# Altium integrated library MC-IMX6Q-BOARD.IntLib: 57 symbols
Pins are listed as number, name and electrical type; pins without a type are passive.

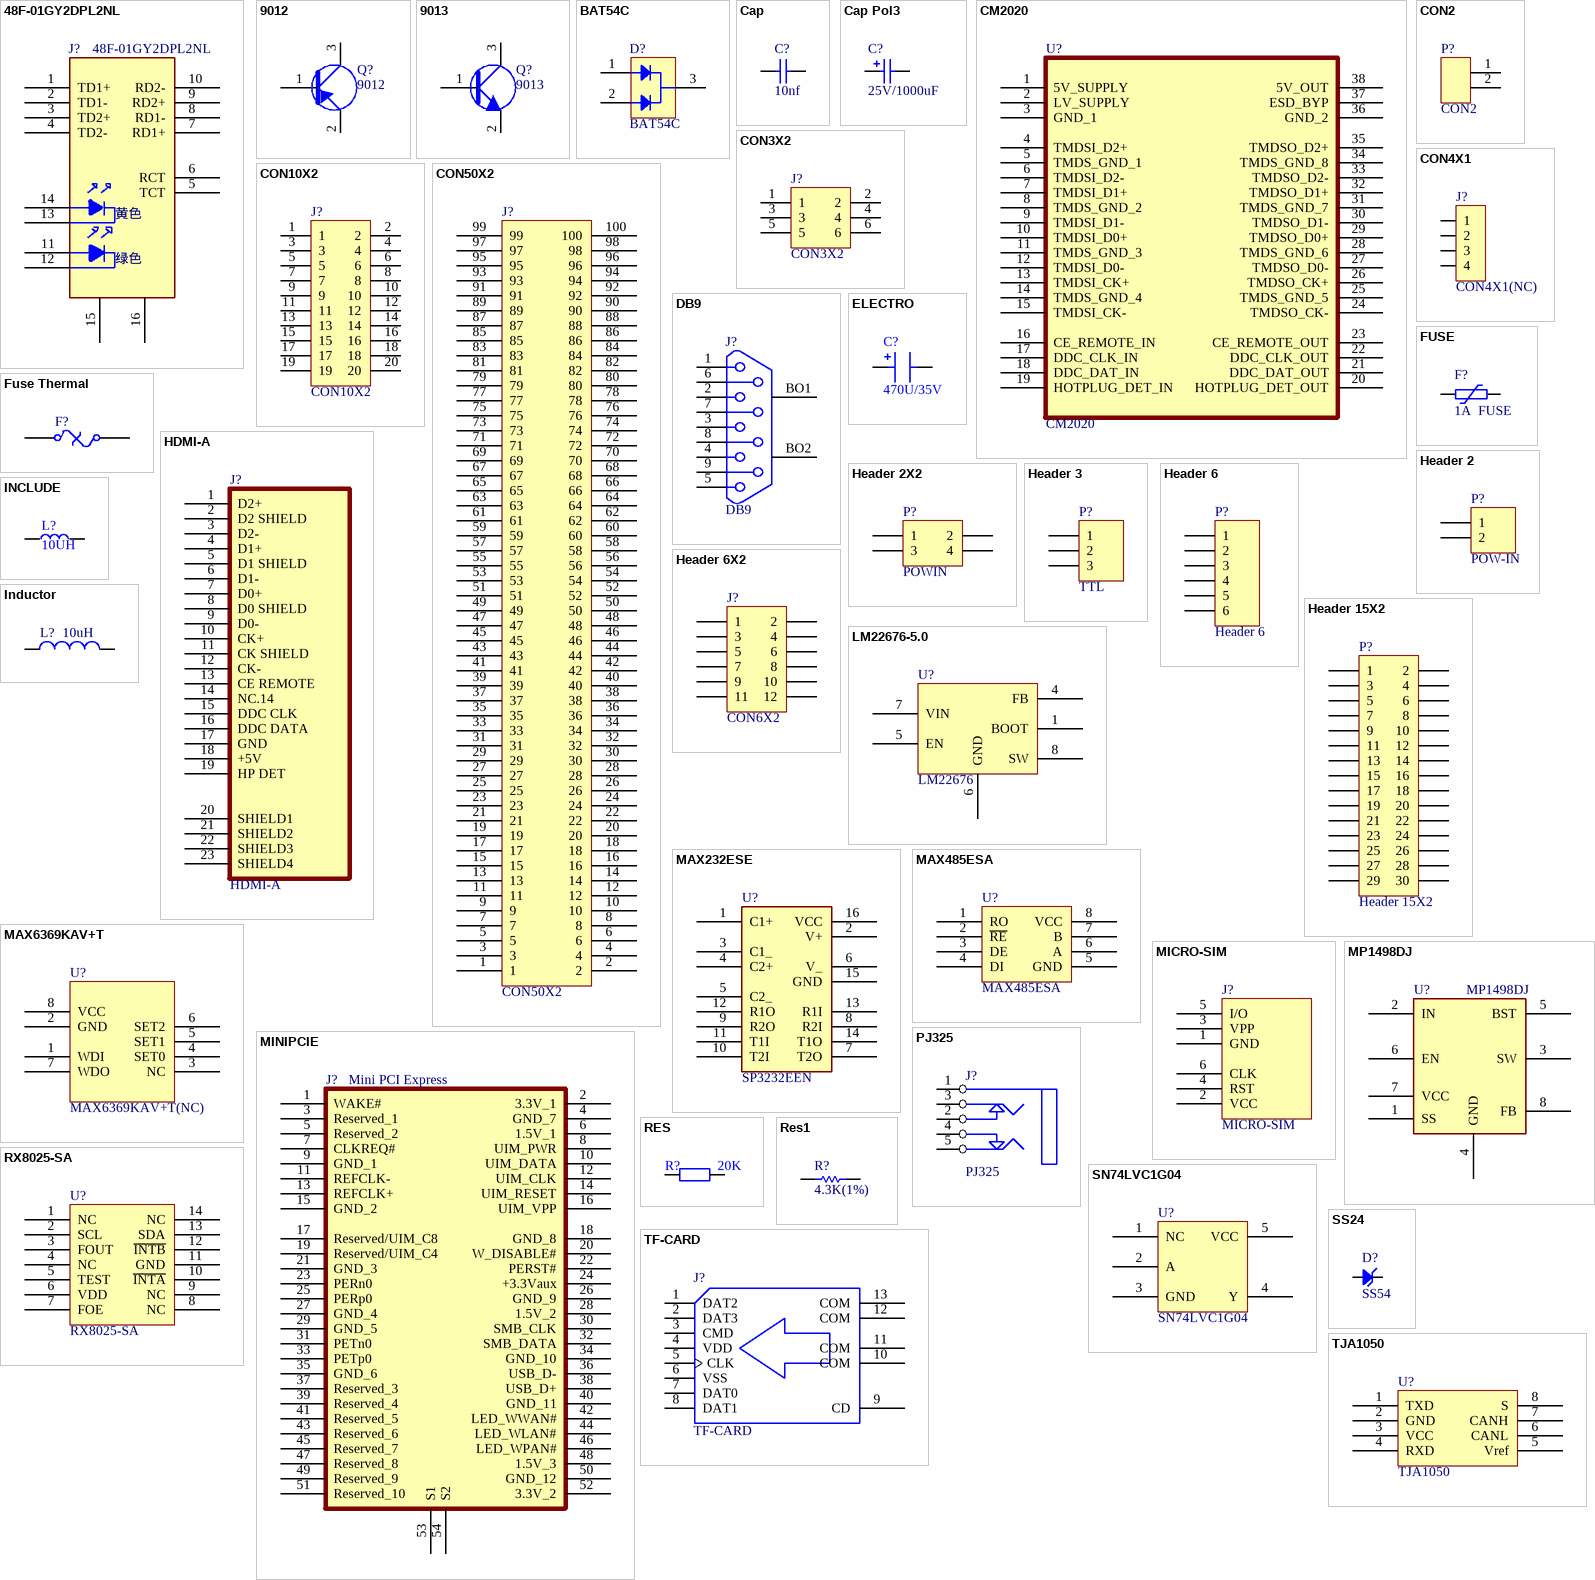
[diagram p0: symbols 48F-01GY2DPL2NL to TJA1050]

## 48F-01GY2DPL2NL
designator J?
footprint RJ45C-48F-01GY2DPL2NL
pins: 1 TD1+, 2 TD1-, 3 TD2+, 4 TD2-, 5 TCT, 6 RCT, 7 RD1+, 8 RD1-, 9 RD2+, 10 RD2-, 11, 12, 13, 14, 15, 16
text: 黄色; 绿色

## 9012
designator Q?
footprint SOT-23
footprint SOT-23-PMOS
pins: 1, 2, 3

## 9013
designator Q?
footprint SOT-23
pins: 1, 2, 3

## BAT54C
designator D?
SCHOTTKY DIODE
footprint SOT-23
pins: 1, 2, 3

## Cap
designator C?  value 10nf  (hidden comment: Cap)
Capacitor; Published: 8-Jun-2000; LatestRevisionDate: 17-Jul-2002; LatestRevisionNote: Re-released for DXP Platform.; PackageReference: RAD-0.3; Publisher: Altium Limited
footprint 1608[0603] (Chip Capacitor; Body 1.6 x 0.8 mm (LxW typ))
footprint VP32-3.2 (Capacitor, Ceramic, Thru-Hole, Dipped Radial; Body 5.1 x 3.2 mm (WxT) Pin Spacing 2.54 mm (typ))
footprint VP45-3.2 (Capacitor, Ceramic, Thru-Hole, Dipped Radial; Body 7.8 x 3.2 mm (WxT) Pin Spacing 5.08 mm (typ))
simulation model CAP (Capacitor)
signal-integrity model Cap
footprint 0603
footprint 0603R
footprint 0603C
pins: 1, 2

## Cap Pol3
designator C?  value 25V/1000uF  (hidden comment: Cap Pol3)
Polarized Capacitor (Surface Mount); Published: 8-Jun-2000; LatestRevisionDate: 17-Jul-2002; LatestRevisionNote: Re-released for DXP Platform.; PackageReference: C0805; Publisher: Altium Limited
footprint C10-SMD
footprint 1812 (Chip Capacitor; Body 4.5 x 3.2 mm (LxW typ))
footprint 1825 (Chip Capacitor; Body 4.5 x 6.4 mm (LxW typ))
footprint C2225 (Chip Capacitor; Body 5.6 x 6.4 mm (LxW typ))
footprint 2220 (Chip Capacitor; Body 5.7 x 5.0 mm (LxW typ))
simulation model CAP (Capacitor)
signal-integrity model Cap Pol
pins: 1, 2
1 alternate drawing of the same symbol

## CM2020
designator U?
footprint TSSOP-38
pins: 1 5V_SUPPLY, 2 LV_SUPPLY, 3 GND_1, 4 TMDSI_D2+, 5 TMDS_GND_1, 6 TMDSI_D2-, 7 TMDSI_D1+, 8 TMDS_GND_2, 9 TMDSI_D1-, 10 TMDSI_D0+, 11 TMDS_GND_3, 12 TMDSI_D0-, 13 TMDSI_CK+, 14 TMDS_GND_4, 15 TMDSI_CK-, 16 CE_REMOTE_IN, 17 DDC_CLK_IN, 18 DDC_DAT_IN, 19 HOTPLUG_DET_IN, 20 HOTPLUG_DET_OUT, 21 DDC_DAT_OUT, 22 DDC_CLK_OUT, 23 CE_REMOTE_OUT, 24 TMDSO_CK-, 25 TMDS_GND_5, 26 TMDSO_CK+, 27 TMDSO_D0-, 28 TMDS_GND_6, 29 TMDSO_D0+, 30 TMDSO_D1-, 31 TMDS_GND_7, 32 TMDSO_D1+, 33 TMDSO_D2-, 34 TMDS_GND_8, 35 TMDSO_D2+, 36 GND_2, 37 ESD_BYP, 38 5V_OUT

## CON2
designator P?
footprint XH2.54-2
footprint HT508V-5.08-2
footprint HT508R-5.08-02P-14
footprint DL
footprint VH3.96-2P-SMT
pins: 0 9 hidden to EARTH, 1, 2

## CON3X2
designator J?
footprint IDC3X2-2.54MM
pins: 1, 2, 3, 4, 5, 6

## CON4X1
designator J?, comment CON4X1(NC)
footprint IDC4X1-2.54mm
pins: 1, 2, 3, 4

## CON10X2
designator J?
footprint IDC10X2-2.54MM
footprint IDC10X2-2MM
footprint JTAG20-2.54
pins: 1, 2, 3, 4, 5, 6, 7, 8, 9, 10, 11, 12, 13, 14, 15, 16, 17, 18, 19, 20

## CON50X2
designator J?
ASTRON B2B Connector
footprint B2B100/M-0.8MM
footprint B2B100/F-0.8MM
footprint IDC50X2-1.27MM_SMT
footprint B2B100/F-1.27MM
pins: 1, 2, 3, 4, 5, 6, 7, 8, 9, 10, 11, 12, 13, 14, 15, 16, 17, 18, 19, 20, 21, 22, 23, 24, 25, 26, 27, 28, 29, 30, 31, 32, 33, 34, 35, 36, 37, 38, 39, 40, 41, 42, 43, 44, 45, 46, 47, 48, 49, 50, 51, 52, 53, 54, 55, 56, 57, 58, 59, 60, 61, 62, 63, 64, 65, 66, 67, 68, 69, 70, 71, 72, 73, 74, 75, 76, 77, 78, 79, 80, 81, 82, 83, 84, 85, 86, 87, 88, 89, 90, 91, 92, 93, 94, 95, 96, 97, 98, 99, 100

## DB9
designator J?
footprint DB-9/M
footprint DB-9/M-SLIM
pins: 1, 2, 3, 4, 5, 6, 7, 8, 9, BO1, BO2

## ELECTRO
designator C?, comment 470U/35V
footprint C-4.0
footprint C-6.0
footprint C-8.0
footprint C-16
footprint C8x10-SMD
pins: 1, 2
2 alternate drawings of the same symbol

## FUSE
designator F?, comment 1A  FUSE
贴片自恢复保险丝
footprint 1812F
pins: 1, 2

## Fuse Thermal
designator F?  (value not drawn)
Thermal Fuse; Published: 24-Mar-1999; LatestRevisionDate: 17-Jul-2002; LatestRevisionNote: Re-released for DXP Platform.; PackageReference: PIN-W2/E2.8; Publisher: Altium Limited
footprint 1812F
pins: 1, 2

## HDMI-A
designator J?
footprint HDMI-A
pins: 1 D2+, 2 D2 SHIELD, 3 D2-, 4 D1+, 5 D1 SHIELD, 6 D1-, 7 D0+, 8 D0 SHIELD, 9 D0-, 10 CK+, 11 CK SHIELD, 12 CK-, 13 CE REMOTE, 14 NC.14, 15 DDC CLK, 16 DDC DATA, 17 GND, 18 +5V, 19 HP DET, 20 SHIELD1, 21 SHIELD2, 22 SHIELD3, 23 SHIELD4

## Header 2
designator P?, comment POW-IN
Header, 2-Pin; LatestRevisionDate: 17-Jul-2002; LatestRevisionNote: Re-released for DXP Platform.; Publisher: Altium Limited
footprint VH3.96-2P-SMT
signal-integrity model Connector
pins: 0 9 hidden to EARTH, 1, 2

## Header 2X2
designator P?, comment POWIN
Header, 2-Pin, Dual row; LatestRevisionDate: 17-Jul-2002; LatestRevisionNote: Re-released for DXP Platform.; Publisher: Altium Limited
footprint 5569
signal-integrity model Connector
pins: 1, 2, 3, 4

## Header 3
designator P?, comment TTL
Header, 3-Pin; LatestRevisionDate: 17-Jul-2002; LatestRevisionNote: Re-released for DXP Platform.; Publisher: Altium Limited
footprint HDR1X3 (Connector; Header; 3 Position)
signal-integrity model Connector
pins: 1, 2, 3

## Header 6
designator P?
Header, 6-Pin; LatestRevisionDate: 17-Jul-2002; LatestRevisionNote: Re-released for DXP Platform.; Publisher: Altium Limited
footprint 1.25mm-6P
signal-integrity model Connector
pins: 0 9 hidden to EARTH, 1, 2, 3, 4, 5, 6

## Header 6X2
designator J?, comment CON6X2
Header, 6-Pin, Dual row; LatestRevisionDate: 17-Jul-2002; LatestRevisionNote: Re-released for DXP Platform.; Publisher: Altium Limited
footprint IDC6X2-2.54MM
signal-integrity model Connector
pins: 1, 2, 3, 4, 5, 6, 7, 8, 9, 10, 11, 12

## Header 15X2
designator P?
Header, 15-Pin, Dual row; LatestRevisionDate: 17-Jul-2002; LatestRevisionNote: Re-released for DXP Platform.; Publisher: Altium Limited
footprint 2.0-15P*2
signal-integrity model Connector
pins: 1, 2, 3, 4, 5, 6, 7, 8, 9, 10, 11, 12, 13, 14, 15, 16, 17, 18, 19, 20, 21, 22, 23, 24, 25, 26, 27, 28, 29, 30

## INCLUDE
designator L?, comment 10UH
footprint 0805L
footprint L-DR74
footprint L-16
footprint L-DSH127
footprint L-6045
pins: 1, 2
2 alternate drawings of the same symbol

## Inductor
designator L?  value 10uH  (hidden comment: Inductor)
Code_IEC: 1005; Published: 8-Jun-2000; LatestRevisionDate: 17-Jul-2002; LatestRevisionNote: Re-released for DXP Platform.; PackageReference: 0402-A; Publisher: Altium Limited; Code_JEITA: 0402
footprint L-8040
footprint L0603 (Chip Inductor; Body 1.6 x 0.8 mm (LxW typ))
footprint 2012_Chip (2012 Chip; Chip Inductor; Body 2.0 x 1.2 mm (LxW typ))
footprint 2029 (Chip Inductor; Body 2 x 1.2 mm (LxW typ))
footprint 3261 (3216 Chip; Chip Inductor; Body 3.2 x 1.6 mm (LxW typ))
footprint 4564_Chip (4564 Chip; Chip Inductor; Body 4.5 x 6.4 mm (LxW typ))
simulation model INDUCTOR (Inductor)
signal-integrity model Inductor
pins: 1, 2

## LM22676-5.0
designator U?, comment LM22676
footprint SOP8-POW
pins: 1 BOOT, 2 NC hidden, 3 NC hidden, 4 FB, 5 EN, 6 GND, 7 VIN, 8 SW

## MAX232ESE
designator U?, comment SP3232EEN
Text Field1: MAXIM; Text Field2: RS232; MAXIM: *
footprint SOIC16-1.27
pins: 1 C1+, 2 V+, 3 C1_, 4 C2+, 5 C2_, 6 V_, 7 T2O, 8 R2I, 9 R2O, 10 T2I, 11 T1I, 12 R1O, 13 R1I, 14 T1O, 15 GND, 16 VCC

## MAX485ESA
designator U?
MAXIM: *
footprint SOP8-1.27
pins: 1 RO, 2 ~{RE}, 3 DE, 4 DI, 5 GND, 6 A, 7 B, 8 VCC

## MAX6369KAV+T
designator U?, comment MAX6369KAV+T(NC)
footprint TSOT23-8
pins: 1 WDI, 2 GND, 3 NC, 4 SET0, 5 SET1, 6 SET2, 7 WDO, 8 VCC

## MICRO-SIM
designator J?
footprint MACRO-SIM
pins: 1 GND, 2 VCC, 3 VPP, 4 RST, 5 I/O, 6 CLK

## MINIPCIE
designator J?, comment Mini PCI Express
MPC24-52K3311
footprint MINI-PCIE
pins: 1 WAKE#, 2 3.3V_1, 3 Reserved_1, 4 GND_7, 5 Reserved_2, 6 1.5V_1, 7 CLKREQ#, 8 UIM_PWR, 9 GND_1, 10 UIM_DATA, 11 REFCLK-, 12 UIM_CLK, 13 REFCLK+, 14 UIM_RESET, 15 GND_2, 16 UIM_VPP, 17 Reserved/UIM_C8, 18 GND_8, 19 Reserved/UIM_C4, 20 W_DISABLE#, 21 GND_3, 22 PERST#, 23 PERn0, 24 +3.3Vaux, 25 PERp0, 26 GND_9, 27 GND_4, 28 1.5V_2, 29 GND_5, 30 SMB_CLK, 31 PETn0, 32 SMB_DATA, 33 PETp0, 34 GND_10, 35 GND_6, 36 USB_D-, 37 Reserved_3, 38 USB_D+, 39 Reserved_4, 40 GND_11, 41 Reserved_5, 42 LED_WWAN#, 43 Reserved_6, 44 LED_WLAN#, 45 Reserved_7, 46 LED_WPAN#, 47 Reserved_8, 48 1.5V_3, 49 Reserved_9, 50 GND_12, 51 Reserved_10, 52 3.3V_2, 53 S1, 54 S2

## MP1498DJ
designator U?
MP1498DJ 2A
footprint TSOT23-8
pins: 1 SS, 2 IN, 3 SW, 4 GND, 5 BST, 6 EN, 7 VCC, 8 FB

## PJ325
designator J?
footprint PJ325
pins: 1, 2, 3, 4, 5

## RES
designator R?, comment 20K
footprint 0805R
footprint 0603R
footprint 1206R
footprint RES-3W
pins: 1, 2
2 alternate drawings of the same symbol

## Res1
designator R?  value 4.3K(1%)  (hidden comment: Res1)
Resistor; Published: 8-Jun-2000; LatestRevisionDate: 17-Jul-2002; LatestRevisionNote: Re-released for DXP Platform.; PackageReference: AXIAL-0.3; Publisher: Altium Limited
footprint 1608[0603] (Chip Capacitor; Body 1.6 x 0.8 mm (LxW typ))
simulation model RESISTOR (Resistor)
signal-integrity model Res
footprint 0603
footprint 0603R
pins: 1, 2

## RX8025-SA
designator U?
I2C interface RTC with crystal built-in
footprint SOP14-1.27
pins: 1 NC, 2 SCL, 3 FOUT, 4 NC, 5 TEST, 6 VDD, 7 FOE, 8 NC, 9 NC, 10 ~{INTA}, 11 GND, 12 ~{INTB}, 13 SDA, 14 NC

## SN74LVC1G04
designator U?
footprint SOT23-5N
pins: 1 NC, 2 A, 3 GND, 4 Y, 5 VCC

## SS24
designator D?, comment SS54
DIODES: *
footprint SMA
pins: A, K

## TF-CARD
designator J?
footprint TF-CARD
pins: 1 DAT2, 2 DAT3, 3 CMD, 4 VDD, 5 CLK, 6 VSS, 7 DAT0, 8 DAT1, 9 CD, 10 COM, 11 COM, 12 COM, 13 COM

## TJA1050
designator U?
footprint SOP8-1.27
pins: 1 TXD, 2 GND, 3 VCC, 4 RXD, 5 Vref, 6 CANL, 7 CANH, 8 S

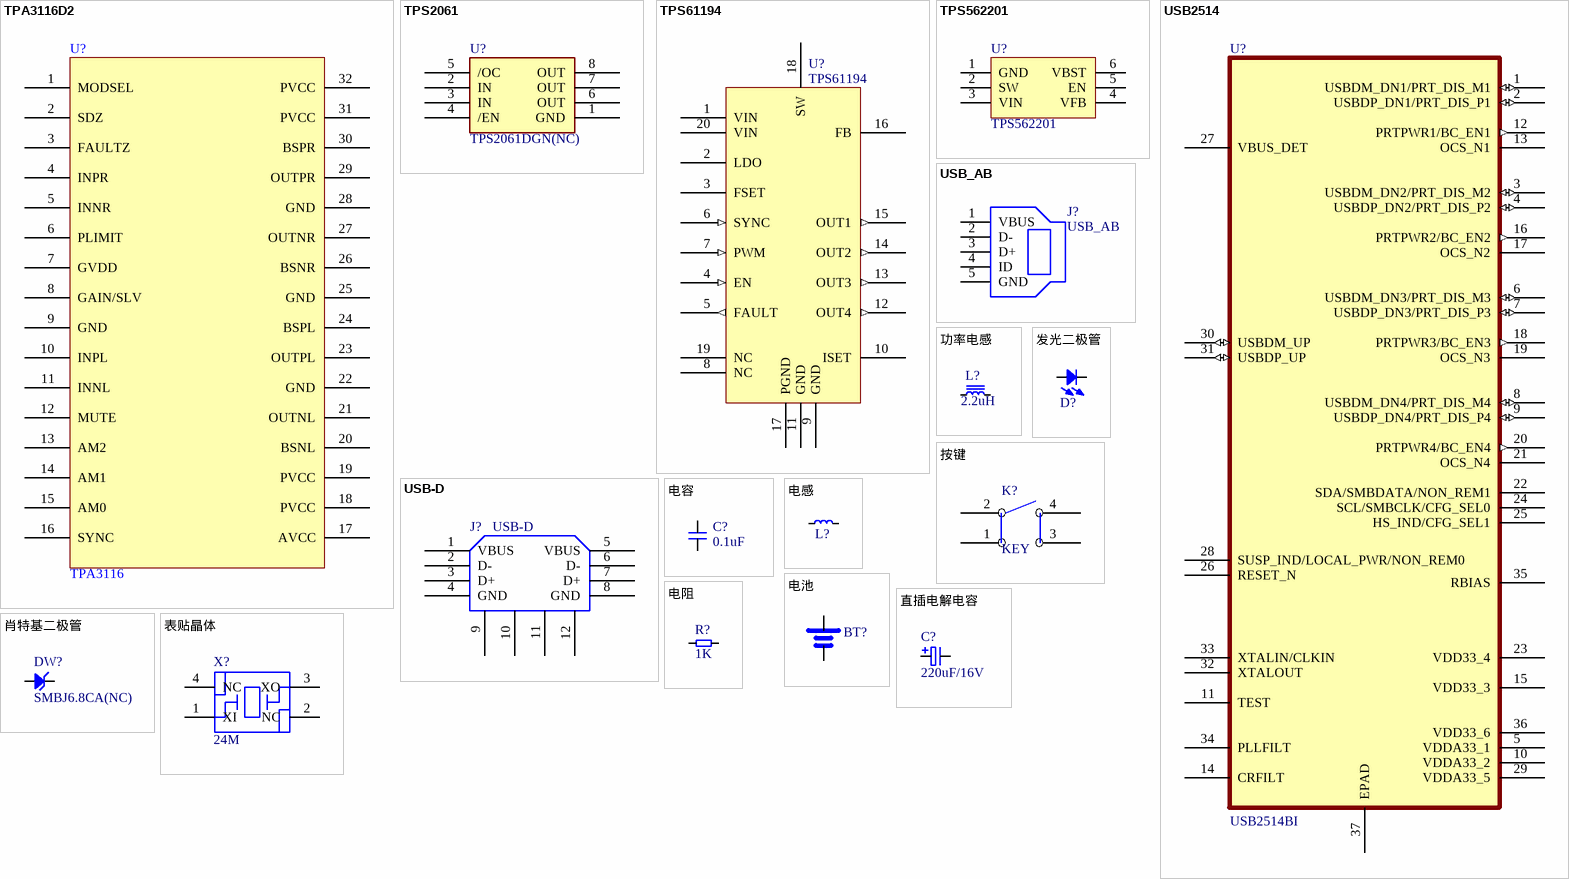
[diagram p1: symbols TPA3116D2 to 表贴晶体]

## TPA3116D2
designator U?, comment TPA3116
footprint HTSSOP-32
pins: 1 MODSEL, 2 SDZ, 3 FAULTZ, 4 INPR, 5 INNR, 6 PLIMIT, 7 GVDD, 8 GAIN/SLV, 9 GND, 10 INPL, 11 INNL, 12 MUTE, 13 AM2, 14 AM1, 15 AM0, 16 SYNC, 17 AVCC, 18 PVCC, 19 PVCC, 20 BSNL, 21 OUTNL, 22 GND, 23 OUTPL, 24 BSPL, 25 GND, 26 BSNR, 27 OUTNR, 28 GND, 29 OUTPR, 30 BSPR, 31 PVCC, 32 PVCC, 33 9 hidden to AUGND
2 alternate drawings of the same symbol

## TPS2061
designator U?, comment TPS2061DGN(NC)
TPS2061DGN
footprint MSOP-8
pins: 1 GND, 2 IN, 3 IN, 4 /EN, 5 /OC, 6 OUT, 7 OUT, 8 OUT

## TPS61194
designator U?
footprint HTTSOP-20
pins: 1 VIN, 2 LDO, 3 FSET, 4 EN (in), 5 FAULT (out), 6 SYNC (in), 7 PWM (in), 8 NC, 9 GND, 10 ISET, 11 GND, 12 OUT4 (out), 13 OUT3 (out), 14 OUT2 (out), 15 OUT1 (out), 16 FB, 17 PGND, 18 SW, 19 NC, 20 VIN, 21 PAD hidden to GND

## TPS562201
designator U?
footprint SOT23-6-DC (SOT23, 6-Leads, Body 3.0x3.7mm (max), Pitch 0.95mm, IPC Medium Density)
pins: 1 GND, 2 SW, 3 VIN, 4 VFB, 5 EN, 6 VBST

## USB2514
designator U?, comment USB2514BI
footprint QFN-36
pins: 1 USBDM_DN1/PRT_DIS_M1 (io), 2 USBDP_DN1/PRT_DIS_P1 (io), 3 USBDM_DN2/PRT_DIS_M2 (io), 4 USBDP_DN2/PRT_DIS_P2 (io), 5 VDDA33_1, 6 USBDM_DN3/PRT_DIS_M3 (io), 7 USBDP_DN3/PRT_DIS_P3 (io), 8 USBDM_DN4/PRT_DIS_M4 (io), 9 USBDP_DN4/PRT_DIS_P4 (io), 10 VDDA33_2, 11 TEST, 12 PRTPWR1/BC_EN1 (out), 13 OCS_N1, 14 CRFILT, 15 VDD33_3, 16 PRTPWR2/BC_EN2 (out), 17 OCS_N2, 18 PRTPWR3/BC_EN3 (out), 19 OCS_N3, 20 PRTPWR4/BC_EN4 (out), 21 OCS_N4, 22 SDA/SMBDATA/NON_REM1, 23 VDD33_4, 24 SCL/SMBCLK/CFG_SEL0, 25 HS_IND/CFG_SEL1, 26 RESET_N, 27 VBUS_DET, 28 SUSP_IND/LOCAL_PWR/NON_REM0, 29 VDDA33_5, 30 USBDM_UP (io), 31 USBDP_UP (io), 32 XTALOUT, 33 XTALIN/CLKIN, 34 PLLFILT, 35 RBIAS, 36 VDD33_6, 37 EPAD

## USB-D
designator J?
USB DOUBLE PORTS
footprint USB-D
pins: 1 VBUS, 2 D-, 3 D+, 4 GND, 5 VBUS, 6 D-, 7 D+, 8 GND, 9, 10, 11, 12

## USB_AB
designator J?
小USB插痤
footprint MINI USB B
pins: 1 VBUS, 2 D-, 3 D+, 4 ID, 5 GND

## 功率电感
designator L?, comment 2.2uH
footprint SDRH0420
footprint SDRH1040
footprint SDRH0316
footprint SDRH0632
pins: 1, 2

## 发光二极管
designator D?  (value not drawn)
footprint 0603D
footprint LED_DIP
footprint 0805D (Footprint not found)
pins: A, K

## 按键
designator K?, comment KEY
按键
footprint SS-SPB-4.5
footprint SS-SPB-6.0
footprint KEY
pins: 1, 2, 3, 4

## 电容
designator C?, comment 0.1uF
电容
footprint 0603C
footprint 0805C
footprint 1206C
pins: 1, 2

## 电感
designator L?  (value not drawn)
footprint 0603L
footprint 0805L
pins: 1, 2

## 电池
designator BT?
footprint CR2032
footprint CR1220
pins: 1, 2

## 电阻
designator R?, comment 1K
电阻
footprint 0603R
footprint 0805R
footprint 0402R
pins: 1, 2

## 直插电解电容
designator C?, comment 220uF/16V
直插电解电容
footprint C8x10-SMD
footprint RAD-3/8
footprint RAD-5/10
footprint C6.3x5.4-SMD
pins: 1, 2

## 肖特基二极管
designator DW?, comment SMBJ6.8CA(NC)
footprint SMA
footprint SMB
footprint SMC
pins: A, K

## 表贴晶体
designator X?, comment 24M
4PIN表贴晶体
footprint OSC4-3225
footprint XTAL4-6035
pins: 1 XI, 2 NC, 3 XO, 4 NC